# Altium integrated library EDGR.IntLib: 3 symbols
Pins are listed as number, name and electrical type; pins without a type are passive.

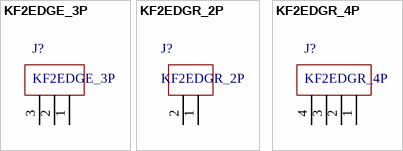
[diagram p0: symbols KF2EDGE_3P to KF2EDGR_4P]

## KF2EDGE_3P
designator J?
footprint KF2EDGR_3P
pins: 1, 2, 3

## KF2EDGR_2P
designator J?
footprint KF2EDGR_2P
pins: 1, 2

## KF2EDGR_4P
designator J?
footprint KF2EDGR_4P
pins: 1, 2, 3, 4